# Altium schematic symbol library MC-ARM-STM32F0.SchLib: 1 symbol
Pins are listed as number, name and electrical type; pins without a type are passive.

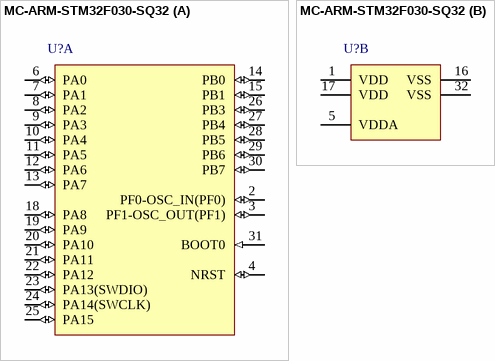
[diagram p0: symbol MC-ARM-STM32F030-SQ32]

## MC-ARM-STM32F030-SQ32
designator U?
part A pins: 2 PF0-OSC_IN(PF0) (io) "PF0-OSC_IN(PF0)/OSC_IN", 3 PF1-OSC_OUT(PF1) (io) "PF1-OSC_OUT(PF1)/OSC_OUT", 4 NRST (io) "Device reset input / internal reset output (active low)", 6 PA0 (io) "PA0/USART1_CTS/ADC_IN0,RTC_TAMP2,WKUP1", 7 PA1 (io) "PA1/USART1_RTS,EVENTOUT/ADC_IN1", 8 PA2 (io) "PA2/USART1_TX/ADC_IN2", 9 PA3 (io) "PA3/USART1_RX/ADC_IN3", 10 PA4 (io) "PA4/SPI1_NSS,USART1_CK,TIM14_CH1/ADC_IN4", 11 PA5 (io) "PA5/SPI1_SCK/ADC_IN5", 12 PA6 (io) "PA6/SPI1_MISO,TIM3_CH1,TIM1_BKIN,TIM16_CH1,EVENTOUT/ADC_IN6", 13 PA7 (io) "PA7/SPI1_MOSI,TIM3_CH2,TIM14_CH1,TIM1_CH1N,TIM17_CH1,EVENTOUT/ADC_IN7", 14 PB0 (io) "PB0/TIM3_CH3,TIM1_CH2N,EVENTOUT/ADC_IN8", 15 PB1 (io) "PB1/TIM3_CH4,TIM14_CH1,TIM1_CH3N/ADC_IN9", 18 PA8 (io) "PA8/USART1_CK,TIM1_CH1,EVENTOUT,MCO", 19 PA9 (io) "PA9/USART1_TX,TIM1_CH2,I2C1_SCL", 20 PA10 (io) "PA10/USART1_RX,TIM1_CH3,TIM17_BKIN,I2C1_SDA", 21 PA11 (io) "PA11/USART1_CTS,TIM1_CH4,EVENTOUT", 22 PA12 (io) "PA12/USART1_RTS,TIM1_ETR,EVENTOUT", 23 PA13(SWDIO) (io) "PA13(SWDIO)/IR_OUT,SWDIO", 24 PA14(SWCLK) (io) "PA14(SWCLK)/USART1_TX,SWCLK", 25 PA15 (io) "PA15/SPI1_NSS,USART1_RX,EVENTOUT", 26 PB3 (io) "PB3/SPI1_SCK,EVENTOUT", 27 PB4 (io) "PB4/SPI1_MISO,TIM3_CH1,EVENTOUT", 28 PB5 (io) "PB5/SPI1_MOSI,I2C1_SMBA,TIM16_BKIN,TIM3_CH2", 29 PB6 (io) "PB6/I2C1_SCL,USART1_TX,TIM16_CH1N", 30 PB7 (io) "PB7/I2C1_SDA,USART1_RX,TIM17_CH1N", 31 BOOT0 (in) "Boot memory selection"
part B pins: 1 VDD (power) "Digital power supply", 5 VDDA (power) "Analog power supply", 16 VSS (power) "Ground", 17 VDD (power) "Digital power supply", 32 VSS (power) "Ground"